# Altium footprint library WSL2010R2000FEA18.PcbLib: 3 footprints
Each footprint in its own frame and in the unit in brackets; x right, y up, seen from the top. Pads: shape width x height; smd on the part's side, far side on the other; paste and mask are expansions set on the pad; w line width, h text height; cw(c..) or ccw(c..) is an arc to the next point about the centre after c.
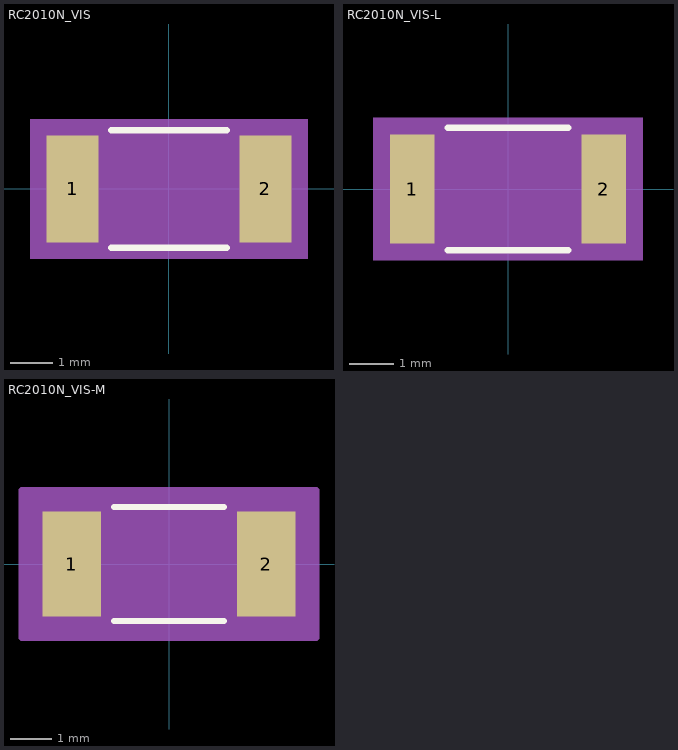
[diagram p0: the footprints below, top view; thin cyan lines are the x and y axes]

## RC2010N_VIS [mm]
pads (2):
  rect 1.206x2.5 smd paste+0 mask+0: 1(-2.253,0) 2(2.253,0)
Top Overlay:
  lines w0.152: -1.342,-1.377 1.342,-1.377 ; -1.342,1.377 1.342,1.377
Mechanical 5:
  region: 3.237,-1.631 -3.237,-1.631 -3.237,1.631 3.237,1.631
Mechanical 13:
  lines w0.025: -2.5,-1.25 -2.5,1.25 ; -2.5,-1.25 -1.65,-1.25 -1.65,1.25 -2.5,1.25 ; -2.5,-1.25 2.5,-1.25 ; -2.5,-1.25 -2.5,1.25 ; -2.5,1.25 2.5,1.25 ; 2.5,-1.25 1.65,-1.25 1.65,1.25 2.5,1.25 ; 2.5,-1.25 2.5,1.25 ; 2.5,-1.25 2.5,1.25
Mechanical 15:
  region: 3.11,-1.504 -3.11,-1.504 -3.11,1.504 3.11,1.504
  lines w0.152: -3.11,-1.504 -3.11,1.504 3.11,1.504 3.11,-1.504 -3.11,-1.504
3D body "RC2010N_VIS.step": height 0.71, standoff 0, extent -2.5,-1.25 2.5,1.25

## RC2010N_VIS-L [mm]
pads (2):
  rect 1.002x2.449 smd paste+0 mask+0: 1(-2.151,0) 2(2.151,0)
Top Overlay:
  lines w0.152: -1.354,-1.377 1.354,-1.377 ; -1.354,1.377 1.354,1.377
Mechanical 5:
  region: 3.033,-1.606 -3.033,-1.606 -3.033,1.606 3.033,1.606
Mechanical 13:
  lines w0.025: -2.5,-1.25 -2.5,1.25 ; -2.5,-1.25 -1.65,-1.25 -1.65,1.25 -2.5,1.25 ; -2.5,-1.25 2.5,-1.25 ; -2.5,-1.25 -2.5,1.25 ; -2.5,1.25 2.5,1.25 ; 2.5,-1.25 1.65,-1.25 1.65,1.25 2.5,1.25 ; 2.5,-1.25 2.5,1.25 ; 2.5,-1.25 2.5,1.25
Mechanical 15:
  region: 2.754,-1.326 -2.754,-1.326 -2.754,1.326 2.754,1.326
  lines w0.152: -2.754,-1.326 -2.754,1.326 2.754,1.326 2.754,-1.326 -2.754,-1.326
3D body "RC2010N_VIS.step": height 0.71, standoff 0, extent -2.5,-1.25 2.5,1.25

## RC2010N_VIS-M [mm]
pads (2):
  rect 1.409x2.551 smd paste+0 mask+0: 1(-2.354,0) 2(2.354,0)
Top Overlay:
  lines w0.152: -1.333,-1.377 1.333,-1.377 ; -1.333,1.377 1.333,1.377
Mechanical 5:
  region: 3.44,-1.656 -3.44,-1.656 -3.44,1.656 3.44,1.656
Mechanical 13:
  lines w0.025: -2.5,-1.25 -2.5,1.25 ; -2.5,-1.25 -1.65,-1.25 -1.65,1.25 -2.5,1.25 ; -2.5,-1.25 2.5,-1.25 ; -2.5,-1.25 -2.5,1.25 ; -2.5,1.25 2.5,1.25 ; 2.5,-1.25 1.65,-1.25 1.65,1.25 2.5,1.25 ; 2.5,-1.25 2.5,1.25 ; 2.5,-1.25 2.5,1.25
Mechanical 15:
  region: 3.567,-1.783 -3.567,-1.783 -3.567,1.783 3.567,1.783
  lines w0.152: -3.567,-1.783 -3.567,1.783 3.567,1.783 3.567,-1.783 -3.567,-1.783
3D body "RC2010N_VIS.step": height 0.71, standoff 0, extent -2.5,-1.25 2.5,1.25